# EAGLE library part 6180XX330923_618026330923 (library Wurth_Connectors_WR-DSUB)
WR-DSUB Female High Density Angled PCB Connector w. Hex Screw Kind Properties Gender:Female Type:Angled Insulator Material:PBT Insulator Flammability Rating:UL94 V-0 Color:Black Contact Material:Copper Alloy Contact Plating:Selective Gold Contact Type:Stamped Shielding Material:Steel Shielding Plating:Nickel General Information Operating Temperature:-55 up to +105 °C Electrical Properties Working Voltage:60V (AC) Withstanding Voltage:1000 V (AC) Contact Resistance:30 mΩ <https://www.we-online.com/catalog/media/o33093v209%20Family_WR-DSUB_6180xx330923.jpg> Details see: https://www.we-online.com/catalog/en/DSUB_FEMALE_HIGH_DENSITY_ANGLED_PCB_CONNECTOR_W_HEX_SCREW_6180XX330923/ Updated by Yingchun, Shan 2020-01-14 2020 (C) Würth Elektronik
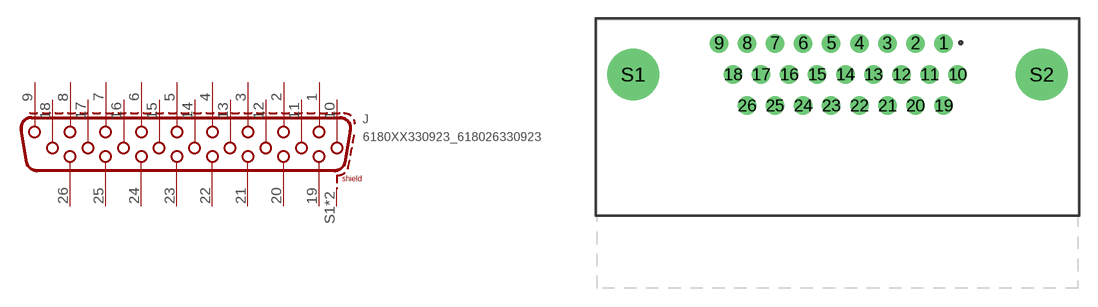
[diagram p30: symbol with the pads of 618026330923; footprint 618026330923]

Designator prefix J

## 6180XX330923_618026330923 (DATASHEET-URL: https://www.we-online.com/redexpert/spec/618026330923?ae; GENDER: Female; PART-NUMBER: 618026330923; PINS: 26; TYPE: Angled; VALUE: 618026330923; WE-NUMBER: 618026330923; WORKING-VOLTAGE: 60 V(AC))  [618026330923]
1  1
2  2
3  3
4  4
5  5
6  6
7  7
8  8
9  9
10  10
11  11
12  12
13  13
14  14
15  15
16  16
17  17
18  18
19  19
20  20
21  21
22  22
23  23
24  24
25  25
26  26
S1  SHIELD
S2  SHIELD

## Footprint 618026330923 (pad centres in mm)
WR-DSUB Female High Density Angled PCB Connector with Hex Screw, 26 Pins
drill 1: 1 8.65,9.02; 2 6.36,9.02; 3 4.07,9.02; 4 1.78,9.02; 5 -0.51,9.02; 6 -2.8,9.02; 7 -5.09,9.02; 8 -7.38,9.02; 9 -9.67,9.02; 10 9.795,6.48; 11 7.505,6.48; 12 5.215,6.48; 13 2.925,6.48; 14 0.635,6.48; 15 -1.655,6.48; 16 -3.945,6.48; 17 -6.235,6.48; 18 -8.525,6.48; 19 8.65,3.94; 20 6.36,3.94; 21 4.07,3.94; 22 1.78,3.94; 23 -0.51,3.94; 24 -2.8,3.94; 25 -5.09,3.94; 26 -7.38,3.94
drill 3.2: S1 -16.66,6.48; S2 16.66,6.48